# Altium schematic symbol library Schlib2.SchLib: 5 symbols
Pins are listed as number, name and electrical type; pins without a type are passive.

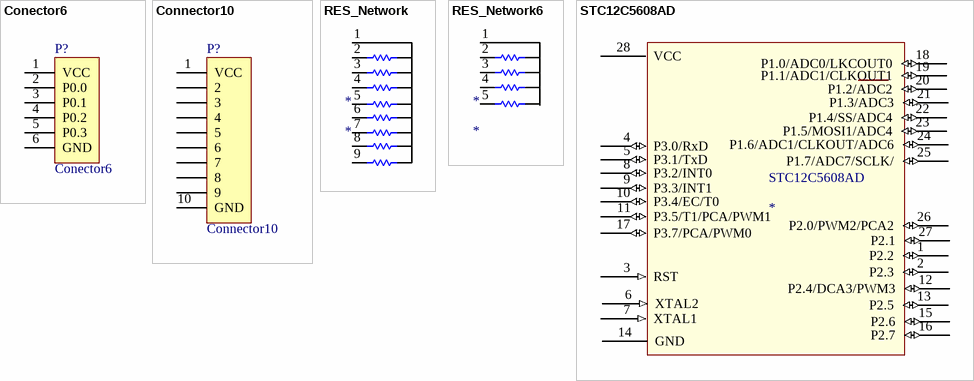
[diagram p0: symbols Conector6 to STC12C5608AD]

## Conector6
designator P?
Header, 6-Pin; LatestRevisionDate: 17-Jul-2002; LatestRevisionNote: Re-released for DXP Platform.; Publisher: Altium Limited
footprint MHDR1X6 (Connector; Header; 6 Position)
pins: 1 VCC, 2 P0.0, 3 P0.1, 4 P0.2, 5 P0.3, 6 GND

## Connector10
designator P?
Header, 10-Pin; LatestRevisionDate: 17-Jul-2002; LatestRevisionNote: Re-released for DXP Platform.; Publisher: Altium Limited
signal-integrity model Connector
footprint pin10
pins: 1 VCC, 2, 3, 4, 5, 6, 7, 8, 9, 10 GND

## RES_Network
designator *
footprint RES_Network
pins: 1, 2, 2, 2, 2, 2, 2, 2, 2, 2 1, 2, 3 1, 4 1, 5 1, 6 1, 7 1, 8 1, 9 1

## RES_Network6
designator *
footprint respack5
pins: 1, 2, 2, 2, 2, 2 1, 2, 3 1, 4 1, 5 1

## STC12C5608AD
designator STC12C5608AD
footprint SO28_M (SOIC, 28-Leads, Body 17.9x7.5mm, Pitch 1.27mm, IPC Low Density)
pins: 1 P2.2 (io), 2 P2.3 (io), 3 RST (in), 4 P3.0/RxD (io), 5 P3.1/TxD (io), 6 XTAL2 (in), 7 XTAL1 (in), 8 P3.2/INT0 (io), 9 P3.3/INT1 (io), 10 P3.4/EC/T0 (io), 11 P3.5/T1/PCA/PWM1 (io), 12 P2.4/DCA3/PWM3 (io), 13 P2.5 (io), 14 GND (power), 15 P2.6 (io), 16 P2.7 (io), 17 P3.7/PCA/PWM0 (io), 18 P1.0/ADC0/LKCOUT0 (io), 19 P1.1/ADC1/CLKOUT1 (io), 20 P1.2/ADC2 (io), 21 P1.3/ADC3 (io), 22 P1.4/SS/ADC4 (io), 23 P1.5/MOSI1/ADC4 (io), 24 P1.6/ADC1/CLKOUT/ADC6 (io), 25 P1.7/ADC7/SCLK/ (io), 26 P2.0/PWM2/PCA2 (io), 27 P2.1 (io), 28 VCC (power)